# Altium footprint library Lib1.PcbLib: 38 footprints (part 2 of 3)
Each footprint in its own frame and in the unit in brackets; x right, y up, seen from the top. Pads: shape width x height; smd on the part's side, far side on the other; paste and mask are expansions set on the pad; w line width, h text height; cw(c..) or ccw(c..) is an arc to the next point about the centre after c.
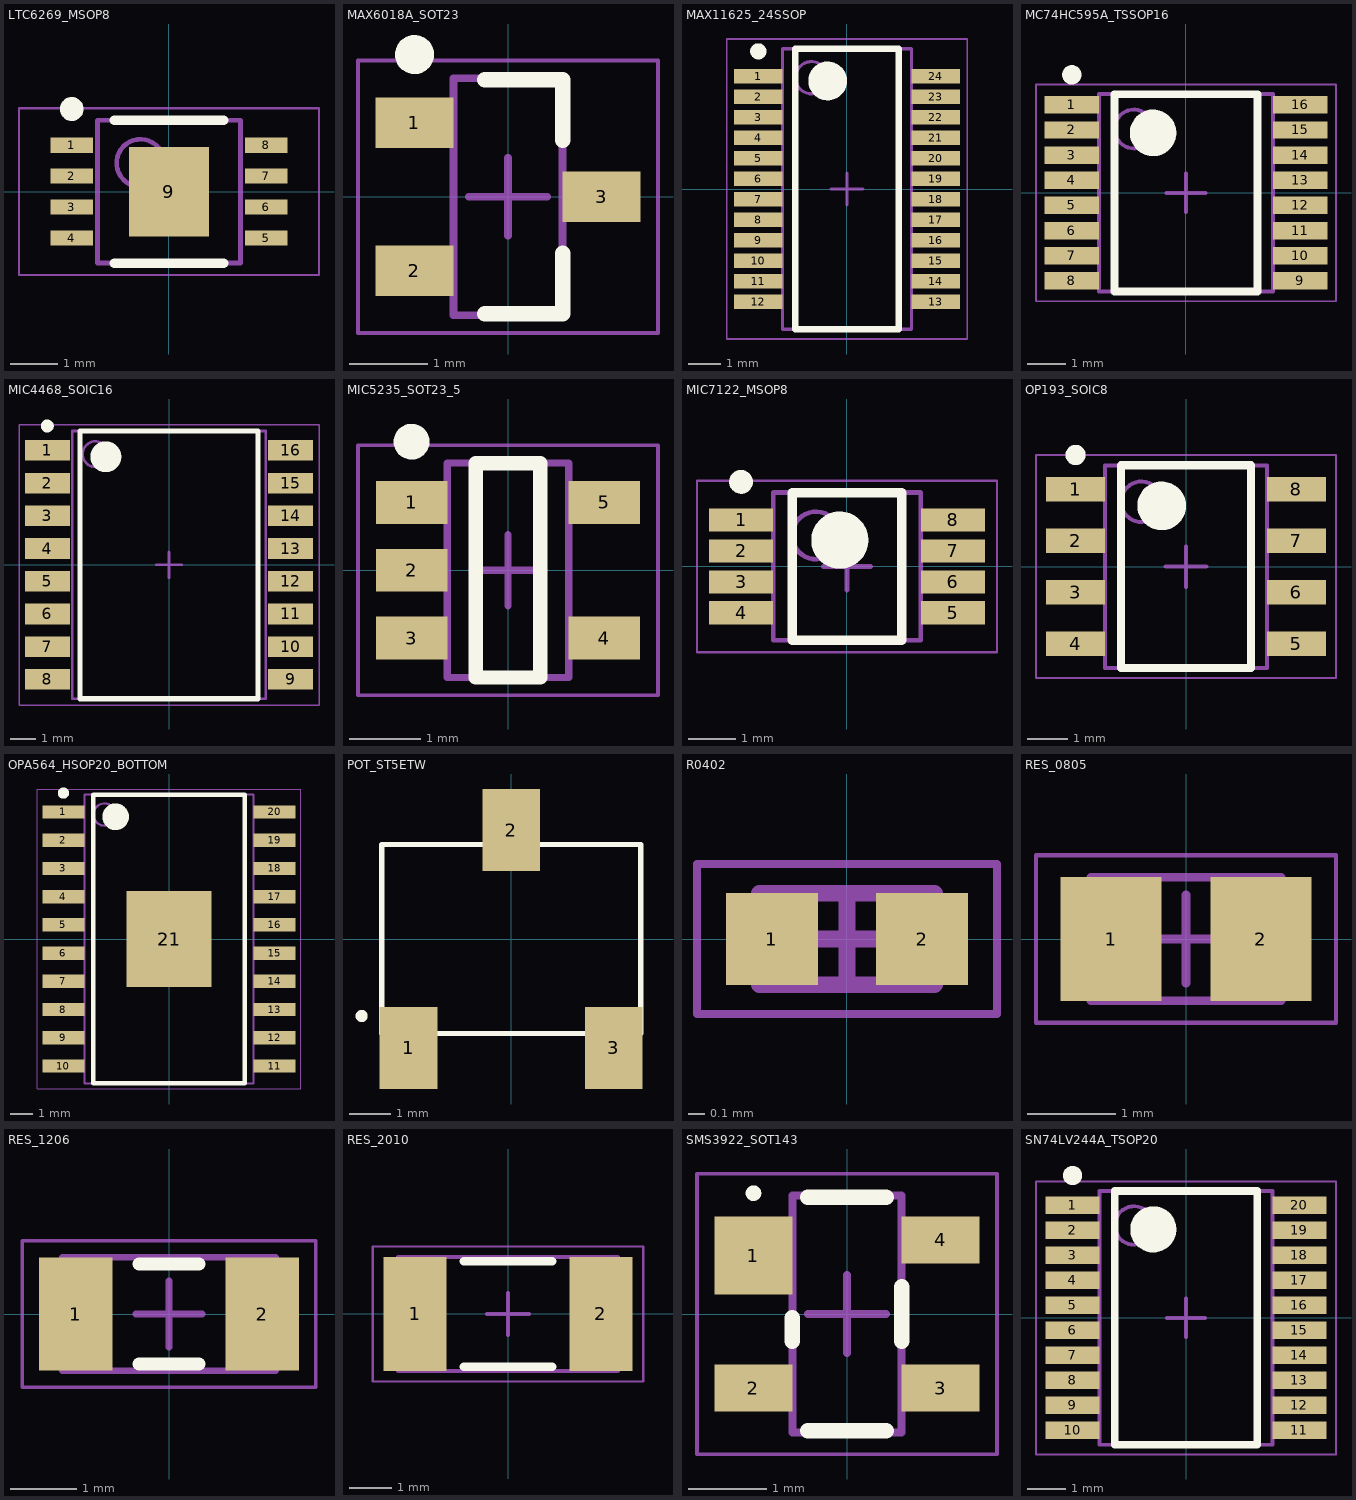
[diagram p1: the footprints below, top view; thin cyan lines are the x and y axes]

## LTC6269_MSOP8 [mil] "MSOP, 8-Leads, Body 3.00x3.00mm, Pitch 0.65mm, Thermal Pad 1.88x1.68mm, IPC Medium Density"
height 43.31
pads (9):
  rect 35x12.5 smd: 1(-80.49,38.39) 2(-80.49,12.8) 3(-80.49,-12.8) 4(-80.49,-38.39) 5(80.49,-38.39) 6(80.49,-12.8) 7(80.49,12.8) 8(80.49,38.39)
  rect 66.14x74.02 smd: 9(0,0)
Top Overlay:
  circle w9.84: c-80.49,68.31 r4.92
  lines w7.87: -45.28,-59.06 45.28,-59.06 ; -45.28,59.06 45.28,59.06
Mechanical 13:
  circle w3.94: c-23.62,23.62 r19.68
  lines w3.94: -59.06,-59.06 -59.06,59.06 59.06,59.06 59.06,-59.06 -59.06,-59.06
Mechanical 15:
  lines w1.97: -124.02,-68.9 -124.02,68.9 124.02,68.9 124.02,-68.9 -124.02,-68.9
  lines w3.94: -19.68,0 19.69,0 ; 0,-19.69 0,19.68
3D body: height 43.31, standoff 3.94, extent -59.06,-59.06 59.06,59.06

## MAX6018A_SOT23 [mm]
height 1.12
pads (3):
  rect 1x0.65 smd: 1(-1.2,0.95) 2(-1.2,-0.95) 3(1.2,0)
Top Overlay:
  circle w0.25: c-1.2,1.825 r0.125
  lines w0.2: -0.3,-1.5 0.7,-1.5 0.7,-0.725 ; -0.3,1.5 0.7,1.5 0.7,0.725
Mechanical 13:
  lines w0.1: -0.7,-1.52 -0.7,1.52 0.7,1.52 0.7,-1.52 -0.7,-1.52
Mechanical 15:
  lines w0.05: -1.925,-1.75 -1.925,1.75 1.925,1.75 1.925,-1.75 -1.925,-1.75
  lines w0.1: -0.5,0 0.5,0 ; 0,-0.5 0,0.5
3D body: height 1.12, standoff 0.01, extent -0.7,-1.52 0.7,1.52

## MAX11625_24SSOP [mm]
height 1.75
pads (24):
  rect 1.5x0.45 smd: 1(-2.75,3.492) 2(-2.75,2.857) 3(-2.75,2.222) 4(-2.75,1.587) 5(-2.75,0.953) 6(-2.75,0.318) 7(-2.75,-0.318) 8(-2.75,-0.953) 9(-2.75,-1.587) 10(-2.75,-2.222) 11(-2.75,-2.857) 12(-2.75,-3.492) 13(2.75,-3.492) 14(2.75,-2.857) 15(2.75,-2.222) 16(2.75,-1.587) 17(2.75,-0.953) 18(2.75,-0.318) 19(2.75,0.318) 20(2.75,0.953) 21(2.75,1.587) 22(2.75,2.222) 23(2.75,2.857) 24(2.75,3.492)
Top Overlay:
  circle w0.6: c-0.6,3.35 r0.3
  circle w0.25: c-2.75,4.267 r0.125
  lines w0.2: -1.6,-4.35 1.6,-4.35 1.6,4.35 -1.6,4.35 -1.6,-4.35
Mechanical 13:
  circle w0.1: c-1.1,3.45 r0.5
  lines w0.1: -2,-4.35 2,-4.35 2,4.35 -2,4.35 -2,-4.35
Mechanical 15:
  lines w0.05: -3.725,-4.65 3.725,-4.65 3.725,4.65 -3.725,4.65 -3.725,-4.65
  lines w0.1: -0.5,0 0.5,0 ; 0,-0.5 0,0.5
3D body: height 1.75, standoff 0.1, extent -2,-4.35 2,4.35

## MC74HC595A_TSSOP16 [mm]
height 1.2
pads (16):
  rect 1.4x0.45 smd: 1(-2.95,2.275) 2(-2.95,1.625) 3(-2.95,0.975) 4(-2.95,0.325) 5(-2.95,-0.325) 6(-2.95,-0.975) 7(-2.95,-1.625) 8(-2.95,-2.275) 9(2.95,-2.275) 10(2.95,-1.625) 11(2.95,-0.975) 12(2.95,-0.325) 13(2.95,0.325) 14(2.95,0.975) 15(2.95,1.625) 16(2.95,2.275)
Top Overlay:
  circle w0.25: c-2.95,3.05 r0.125
  circle w0.6: c-0.85,1.55 r0.3
  lines w0.2: -1.85,-2.55 -1.85,2.55 1.85,2.55 1.85,-2.55 -1.85,-2.55
Mechanical 13:
  circle w0.1: c-1.35,1.65 r0.5
  lines w0.1: -2.25,-2.55 -2.25,2.55 2.25,2.55 2.25,-2.55 -2.25,-2.55
Mechanical 15:
  lines w0.05: -3.875,-2.8 -3.875,2.8 3.875,2.8 3.875,-2.8 -3.875,-2.8
  lines w0.1: -0.5,0 0.5,0 ; 0,-0.5 0,0.5
3D body: height 1.2, standoff 0.05, extent -2.25,-2.55 2.25,2.55

## MIC4468_SOIC16 [mm]
height 2.62
pads (16):
  rect 1.75x0.8 smd: 1(-4.725,4.445) 2(-4.725,3.175) 3(-4.725,1.905) 4(-4.725,0.635) 5(-4.725,-0.635) 6(-4.725,-1.905) 7(-4.725,-3.175) 8(-4.725,-4.445) 9(4.725,-4.445) 10(4.725,-3.175) 11(4.725,-1.905) 12(4.725,-0.635) 13(4.725,0.635) 14(4.725,1.905) 15(4.725,3.175) 16(4.725,4.445)
Top Overlay:
  circle w0.25: c-4.725,5.395 r0.125
  circle w0.6: c-2.45,4.2 r0.3
  lines w0.2: -3.45,-5.2 -3.45,5.2 3.45,5.2 3.45,-5.2 -3.45,-5.2
Mechanical 13:
  circle w0.1: c-2.85,4.3 r0.5
  lines w0.1: -3.75,-5.2 -3.75,5.2 3.75,5.2 3.75,-5.2 -3.75,-5.2
Mechanical 15:
  lines w0.05: -5.825,-5.45 -5.825,5.45 5.825,5.45 5.825,-5.45 -5.825,-5.45
  lines w0.1: -0.5,0 0.5,0 ; 0,-0.5 0,0.5
3D body: height 2.62, standoff 0.13, extent -3.75,-5.2 3.75,5.2

## MIC5235_SOT23_5 [mm]
height 1.45
pads (5):
  rect 1x0.6 smd: 1(-1.35,0.95) 2(-1.35,0) 3(-1.35,-0.95) 4(1.35,-0.95) 5(1.35,0.95)
Top Overlay:
  circle w0.25: c-1.35,1.8 r0.125
  lines w0.2: -0.45,-1.5 0.45,-1.5 0.45,1.5 -0.45,1.5 -0.45,-1.5
Mechanical 13:
  lines w0.1: -0.85,-1.5 -0.85,1.5 0.85,1.5 0.85,-1.5 -0.85,-1.5
Mechanical 15:
  lines w0.05: -2.1,-1.75 -2.1,1.75 2.1,1.75 2.1,-1.75 -2.1,-1.75
  lines w0.1: -0.5,0 0.5,0 ; 0,-0.5 0,0.5
3D body: height 1.45, standoff 0, extent -0.85,-1.5 0.85,1.5

## MIC7122_MSOP8 [mm]
height 0.9
pads (8):
  rect 1.35x0.487 smd: 1(-2.225,0.975) 2(-2.225,0.325) 3(-2.225,-0.325) 4(-2.225,-0.975) 5(2.225,-0.975) 6(2.225,-0.325) 7(2.225,0.325) 8(2.225,0.975)
Top Overlay:
  circle w0.6: c-0.15,0.55 r0.3
  circle w0.25: c-2.225,1.775 r0.125
  lines w0.2: -1.15,-1.55 1.15,-1.55 1.15,1.55 -1.15,1.55 -1.15,-1.55
Mechanical 13:
  circle w0.1: c-0.65,0.65 r0.5
  lines w0.1: -1.55,-1.55 1.55,-1.55 1.55,1.55 -1.55,1.55 -1.55,-1.55
Mechanical 15:
  lines w0.05: -3.15,-1.8 3.15,-1.8 3.15,1.8 -3.15,1.8 -3.15,-1.8
  lines w0.1: -0.5,0 0.5,0 ; 0,-0.5 0,0.5
3D body: height 0.9, standoff 0.1, extent -1.55,-1.55 1.55,1.55

## OP193_SOIC8 [mm]
height 1.75
pads (8):
  rect 1.45x0.6 smd: 1(-2.725,1.905) 2(-2.725,0.635) 3(-2.725,-0.635) 4(-2.725,-1.905) 5(2.725,-1.905) 6(2.725,-0.635) 7(2.725,0.635) 8(2.725,1.905)
Top Overlay:
  circle w0.6: c-0.6,1.5 r0.3
  circle w0.25: c-2.725,2.755 r0.125
  lines w0.2: -1.6,-2.5 1.6,-2.5 1.6,2.5 -1.6,2.5 -1.6,-2.5
Mechanical 13:
  circle w0.1: c-1.1,1.6 r0.5
  lines w0.1: -2,-2.5 2,-2.5 2,2.5 -2,2.5 -2,-2.5
Mechanical 15:
  lines w0.05: -3.7,-2.75 3.7,-2.75 3.7,2.75 -3.7,2.75 -3.7,-2.75
  lines w0.1: -0.5,0 0.5,0 ; 0,-0.5 0,0.5
3D body: height 1.75, standoff 0.1, extent -2,-2.5 2,2.5

## OPA564_HSOP20_BOTTOM [mm] "SOIC, 20-Leads, Body 12.82x7.52mm, Pitch 1.27mm, Thermal Pad 4.32x3.81mm, IPC Medium Density"
height 2.65
pads (21):
  rect 1.9x0.6 smd: 1(-4.75,5.715) 2(-4.75,4.445) 3(-4.75,3.175) 4(-4.75,1.905) 5(-4.75,0.635) 6(-4.75,-0.635) 7(-4.75,-1.905) 8(-4.75,-3.175) 9(-4.75,-4.445) 10(-4.75,-5.715) 11(4.75,-5.715) 12(4.75,-4.445) 13(4.75,-3.175) 14(4.75,-1.905) 15(4.75,-0.635) 16(4.75,0.635) 17(4.75,1.905) 18(4.75,3.175) 19(4.75,4.445) 20(4.75,5.715)
  rect 3.81x4.32 smd: 21(0,0)
Top Overlay:
  circle w0.6: c-2.4,5.5 r0.3
  circle w0.25: c-4.75,6.565 r0.125
  lines w0.2: -3.4,-6.5 3.4,-6.5 3.4,6.5 -3.4,6.5 -3.4,-6.5
Mechanical 13:
  circle w0.1: c-2.9,5.6 r0.5
  lines w0.1: -3.8,-6.5 3.8,-6.5 3.8,6.5 -3.8,6.5 -3.8,-6.5
Mechanical 15:
  lines w0.05: -5.925,-6.75 5.925,-6.75 5.925,6.75 -5.925,6.75 -5.925,-6.75
  lines w0.1: -0.5,0 0.5,0 ; 0,-0.5 0,0.5
3D body: height 2.65, standoff 0.05, extent -3.8,-6.5 3.8,6.5

## POT_ST5ETW [mm]
pads (3):
  rect 1.4x2 smd: 1(-2.5,-2.65) 2(0,2.65) 3(2.5,-2.65)
Top Overlay:
  circle w0.254: c-3.639,-1.874 r0.019
  lines w0.127: -3.15,-2.3 -3.15,2.3 3.15,2.3 3.15,-2.3 -3.15,-2.3

## R0402 [mm]
height 0.37
pads (2):
  rect 0.55x0.55 smd: 1(-0.45,0) 2(0.45,0)
Mechanical 13:
  lines w0.1: -0.525,-0.275 -0.525,0.275 0.525,0.275 0.525,-0.275 -0.525,-0.275
Mechanical 15:
  lines w0.05: -0.9,-0.45 -0.9,0.45 0.9,0.45 0.9,-0.45 -0.9,-0.45
  lines w0.1: -0.275,0 0.275,0 ; 0,-0.275 0,0.275
3D body: height 0.37, standoff 0, extent -0.325,-0.275 0.325,0.275
3D body: height 0.37, standoff 0, extent -0.525,-0.275 -0.325,0.275
3D body: height 0.37, standoff 0, extent 0.325,-0.275 0.525,0.275

## RES_0805 [mm]
height 0.65
pads (2):
  rect 1.15x1.4 smd: 1(-0.85,0) 2(0.85,0)
Mechanical 13:
  lines w0.1: -1.075,-0.7 1.075,-0.7 1.075,0.7 -1.075,0.7 -1.075,-0.7
Mechanical 15:
  lines w0.05: -1.7,-0.95 1.7,-0.95 1.7,0.95 -1.7,0.95 -1.7,-0.95
  lines w0.1: -0.5,0 0.5,0 ; 0,-0.5 0,0.5
3D body: height 0.65, standoff 0, extent 0.675,-0.7 1.075,0.7
3D body: height 0.65, standoff 0, extent -1.075,-0.7 -0.675,0.7
3D body: height 0.65, standoff 0, extent -0.675,-0.7 0.675,0.7

## RES_1206 [mm] "Chip Resistor, 2-Leads, Body 3.10x1.60mm, IPC Medium Density"
height 0.65
pads (2):
  rect 1.1x1.7 smd: 1(-1.4,0) 2(1.4,0)
Top Overlay:
  lines w0.2: -0.45,-0.75 0.45,-0.75 ; -0.45,0.75 0.45,0.75
Mechanical 13:
  lines w0.1: -1.6,-0.85 -1.6,0.85 1.6,0.85 1.6,-0.85 -1.6,-0.85
Mechanical 15:
  lines w0.05: -2.2,-1.1 -2.2,1.1 2.2,1.1 2.2,-1.1 -2.2,-1.1
  lines w0.1: -0.5,0 0.5,0 ; 0,-0.5 0,0.5
3D body: height 0.65, standoff 0, extent -1.15,-0.85 1.15,0.85
3D body: height 0.65, standoff 0, extent -1.6,-0.85 -1.15,0.85
3D body: height 0.65, standoff 0, extent 1.15,-0.85 1.6,0.85

## RES_2010 [mm]
height 0.7
pads (2):
  rect 1.5x2.7 smd: 1(-2.2,0) 2(2.2,0)
Top Overlay:
  lines w0.2: -1.05,-1.25 1.05,-1.25 ; -1.05,1.25 1.05,1.25
Mechanical 13:
  lines w0.1: -2.6,-1.35 -2.6,1.35 2.6,1.35 2.6,-1.35 -2.6,-1.35
Mechanical 15:
  lines w0.05: -3.2,-1.6 -3.2,1.6 3.2,1.6 3.2,-1.6 -3.2,-1.6
  lines w0.1: -0.5,0 0.5,0 ; 0,-0.5 0,0.5
3D body: height 0.7, standoff 0, extent -2,-1.35 2,1.35
3D body: height 0.7, standoff 0, extent -2.6,-1.35 -2,1.35
3D body: height 0.7, standoff 0, extent 2,-1.35 2.6,1.35

## SMS3922_SOT143 [mm] "SOT143, 4-Leads, Body 2.92x2.37mm, Pitch 1.90mm, IPC Medium Density"
height 1.2
pads (4):
  rect 1x1 smd: 1(-1.2,0.75)
  rect 1x0.6 smd: 2(-1.2,-0.95) 3(1.2,-0.95) 4(1.2,0.95)
Top Overlay:
  circle w0.1: c-1.2,1.55 r0.05
  lines w0.2: -0.7,-0.35 -0.7,-0.05 ; -0.5,-1.5 0.5,-1.5 ; -0.5,1.5 0.5,1.5 ; 0.7,-0.35 0.7,0.35
Mechanical 13:
  lines w0.1: -0.7,-1.52 0.7,-1.52 0.7,1.52 -0.7,1.52 -0.7,-1.52
Mechanical 15:
  lines w0.05: -1.925,-1.8 1.925,-1.8 1.925,1.8 -1.925,1.8 -1.925,-1.8
  lines w0.1: -0.5,0 0.5,0 ; 0,-0.5 0,0.5
3D body: height 1.2, standoff 0.15, extent -0.7,-1.52 0.7,1.52

## SN74LV244A_TSOP20 [mm]
height 1.2
pads (20):
  rect 1.4x0.45 smd: 1(-2.95,2.925) 2(-2.95,2.275) 3(-2.95,1.625) 4(-2.95,0.975) 5(-2.95,0.325) 6(-2.95,-0.325) 7(-2.95,-0.975) 8(-2.95,-1.625) 9(-2.95,-2.275) 10(-2.95,-2.925) 11(2.95,-2.925) 12(2.95,-2.275) 13(2.95,-1.625) 14(2.95,-0.975) 15(2.95,-0.325) 16(2.95,0.325) 17(2.95,0.975) 18(2.95,1.625) 19(2.95,2.275) 20(2.95,2.925)
Top Overlay:
  circle w0.6: c-0.85,2.3 r0.3
  circle w0.25: c-2.95,3.7 r0.125
  lines w0.2: -1.85,-3.3 1.85,-3.3 1.85,3.3 -1.85,3.3 -1.85,-3.3
Mechanical 13:
  circle w0.1: c-1.35,2.4 r0.5
  lines w0.1: -2.25,-3.3 2.25,-3.3 2.25,3.3 -2.25,3.3 -2.25,-3.3
Mechanical 15:
  lines w0.05: -3.9,-3.55 3.9,-3.55 3.9,3.55 -3.9,3.55 -3.9,-3.55
  lines w0.1: -0.5,0 0.5,0 ; 0,-0.5 0,0.5
3D body: height 1.2, standoff 0.05, extent -2.25,-3.3 2.25,3.3